# Altium schematic symbol library PJ-324M.SchLib: 1 symbol
Pins are listed as number, name and electrical type; pins without a type are passive.

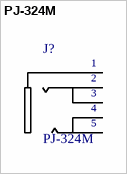
[diagram p0: symbol PJ-324M]

## PJ-324M
designator J?
Headphone Stereo jack/Audio connector; MP: PJ324M; MF: Wenzhou QingPu Electronics Co.Ltd; SnapEDA_Link: https://www.snapeda.com/parts/PJ324M/Wenzhou%20QingPu%20Electronics%20Co.Ltd/view-part/3664803/?ref=snap; Price: None; Package: Package; Check_prices: https://www.snapeda.com/parts/PJ324M/Wenzhou%20QingPu%20Electronics%20Co.Ltd/view-part/3664803/?ref=eda; Availability: No availability data; Value: *
footprint *PJ-324M
pins: 1, 2, 3, 4, 5